# Altium schematic symbol library LM837MX_NOPB.SchLib: 1 symbol
Pins are listed as number, name and electrical type; pins without a type are passive.

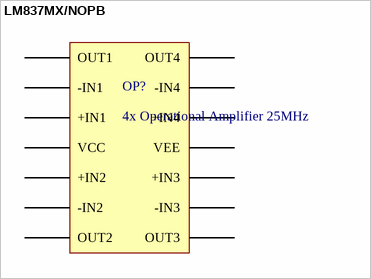
[diagram p0: symbol LM837MX/NOPB]

## LM837MX/NOPB
designator OP?, comment 4x Operational Amplifier 25MHz
pins: 1 OUT1, 2 -IN1, 3 +IN1, 4 VCC, 5 +IN2, 6 -IN2, 7 OUT2, 8 OUT4, 9 -IN4, 10 +IN4, 11 VEE, 12 +IN3, 13 -IN3, 14 OUT3